# EAGLE library part 2X10_0.05"_CORTEX_DEBUG_WITH_ETM (library con-cortex)
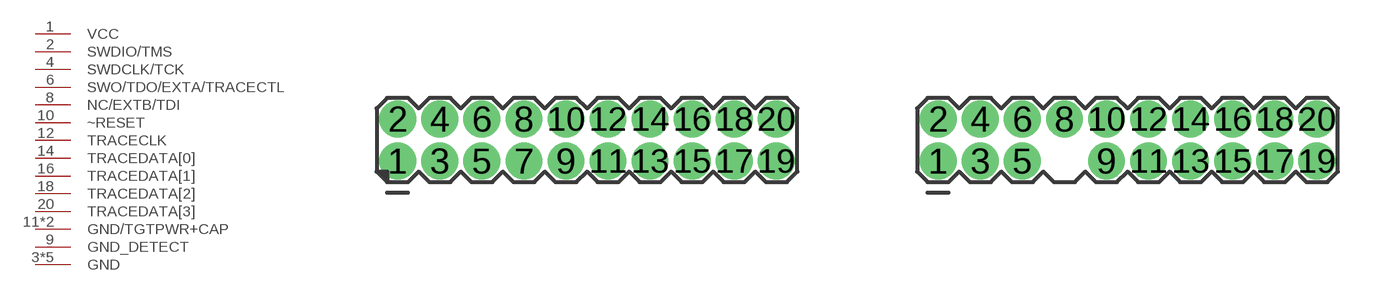
[diagram p2: symbol with the pads of 2X10_0.05"_TH_NS; footprints 2X10_0.05"_TH_NS, 2X10_0.05"_TH_KEYED_NS]

Designator prefix -

## 2X10_0.05"_CORTEX_DEBUG_WITH_ETMTH_UNSHROUDED  [2X10_0.05"_TH_NS]
1  VCC
2  SWDIO/TMS
3  GND
4  SWDCLK/TCK
5  GND
6  SWO/TDO/EXTA/TRACECTL
8  NC/EXTB/TDI
9  GND_DETECT
10  ~RESET
11  GND/TGTPWR+CAP
12  TRACECLK
13  GND/TGTPWR+CAP
14  TRACEDATA[0]
15  GND
16  TRACEDATA[1]
17  GND
18  TRACEDATA[2]
19  GND
20  TRACEDATA[3]

## 2X10_0.05"_CORTEX_DEBUG_WITH_ETMTH_KEYED  [2X10_0.05"_TH_KEYED_NS]
Pads as for 2X10_0.05"_TH_NS

## 2X10_0.05"_CORTEX_DEBUG_WITH_ETMSMD_UNSHROUDED  [2X10_0.05"_SMD_NS]
Pads as for 2X10_0.05"_TH_NS

## 2X10_0.05"_CORTEX_DEBUG_WITH_ETMSMD_SHROUDED  [2X10_0.05"_SMD_SH]
Pads as for 2X10_0.05"_TH_NS

## Footprint 2X10_0.05"_TH_NS (pad centres in mm)
drill 0.6 pad 0.95: 1 -5.715,-0.635; 2 -5.715,0.635; 3 -4.445,-0.635; 4 -4.445,0.635; 5 -3.175,-0.635; 6 -3.175,0.635; 7 -1.905,-0.635; 8 -1.905,0.635; 9 -0.635,-0.635; 10 -0.635,0.635; 11 0.635,-0.635; 12 0.635,0.635; 13 1.905,-0.635; 14 1.905,0.635; 15 3.175,-0.635; 16 3.175,0.635; 17 4.445,-0.635; 18 4.445,0.635; 19 5.715,-0.635; 20 5.715,0.635

## Footprint 2X10_0.05"_TH_KEYED_NS (pad centres in mm)
drill 0.6 pad 0.95: 1 -5.715,-0.635; 2 -5.715,0.635; 3 -4.445,-0.635; 4 -4.445,0.635; 5 -3.175,-0.635; 6 -3.175,0.635; 8 -1.905,0.635; 9 -0.635,-0.635; 10 -0.635,0.635; 11 0.635,-0.635; 12 0.635,0.635; 13 1.905,-0.635; 14 1.905,0.635; 15 3.175,-0.635; 16 3.175,0.635; 17 4.445,-0.635; 18 4.445,0.635; 19 5.715,-0.635; 20 5.715,0.635

## Footprint 2X10_0.05"_SMD_NS (pad centres in mm)
2x10, 0.05" pitch, surface-mount, unshrouded header from FCI, part number 20021121-00020C4LF
smd 0.5 x 2.5: 1 -5.715,-1.905; 2 -5.715,1.905; 3 -4.445,-1.905; 4 -4.445,1.905; 5 -3.175,-1.905; 6 -3.175,1.905; 7 -1.905,-1.905; 8 -1.905,1.905; 9 -0.635,-1.905; 10 -0.635,1.905; 11 0.635,-1.905; 12 0.635,1.905; 13 1.905,-1.905; 14 1.905,1.905; 15 3.175,-1.905; 16 3.175,1.905; 17 4.445,-1.905; 18 4.445,1.905; 19 5.715,-1.905; 20 5.715,1.905

## Footprint 2X10_0.05"_SMD_SH (pad centres in mm)
2x10, 0.05" pitch, surface-mount, shrouded header from FCI, part number : 2021221-xxx20xxLF
smd 0.5 x 2.5: 1 -5.715,-1.905; 2 -5.715,1.905; 3 -4.445,-1.905; 4 -4.445,1.905; 5 -3.175,-1.905; 6 -3.175,1.905; 7 -1.905,-1.905; 8 -1.905,1.905; 9 -0.635,-1.905; 10 -0.635,1.905; 11 0.635,-1.905; 12 0.635,1.905; 13 1.905,-1.905; 14 1.905,1.905; 15 3.175,-1.905; 16 3.175,1.905; 17 4.445,-1.905; 18 4.445,1.905; 19 5.715,-1.905; 20 5.715,1.905